# Altium schematic symbol library SCH - INTERFACE - CAN - NXP TJA1055.Schlib: 1 symbol
Pins are listed as number, name and electrical type; pins without a type are passive.

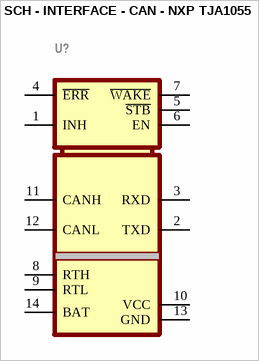
[diagram p0: symbol SCH - INTERFACE - CAN - NXP TJA1055]

## SCH - INTERFACE - CAN - NXP TJA1055
designator U?
footprint SOIC127P600X175-14N (SOIC, 14-Leads, Body 8,8x4,0mm (max), Pitch 1,27mm, IPC Medium Density)
pins: 1 INH, 2 TXD, 3 RXD, 4 ~{ERR}, 5 ~{STB}, 6 EN, 7 ~{WAKE}, 8 RTH, 9 RTL, 10 VCC, 11 CANH, 12 CANL, 13 GND, 14 BAT